# Altium footprint library ad623-SOIC.PcbLib: 1 footprints
Each footprint in its own frame and in the unit in brackets; x right, y up, seen from the top. Pads: shape width x height; smd on the part's side, far side on the other; paste and mask are expansions set on the pad; w line width, h text height; cw(c..) or ccw(c..) is an arc to the next point about the centre after c.
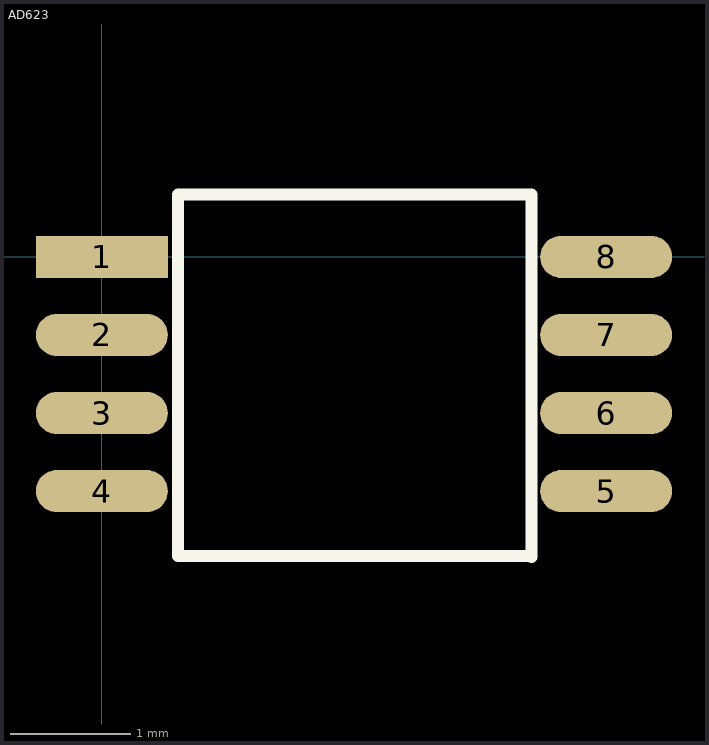
[diagram p0: the footprint, top view; thin cyan lines are the x and y axes]

## AD623 [mm] "SOIC, 8-Leads, Body 5.0x4.0mm (max), Pitch 1.27mm, IPC Medium Density"
height 1.1
pads (8):
  rect 1.1x0.35 smd mask+0.05: 1(0,0)
  oval 1.1x0.35 smd mask+0.05: 2(0,-0.65) 3(0,-1.3) 4(0,-1.95) 5(4.2,-1.95) 6(4.2,-1.3) 7(4.2,-0.65) 8(4.2,0)
Top Overlay:
  lines w0.1: 0.635,-0.508 0.635,0.52 3.58,0.52 3.58,-2.5 3.57,-2.49 0.635,-2.49 0.635,0